# EAGLE library part OLED_DSP (library MyDuino)
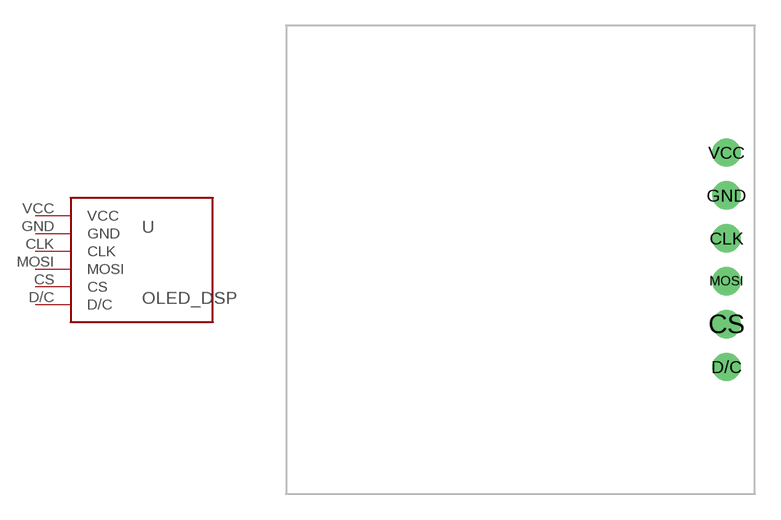
[diagram p2: symbol with the pads of OLED_DSP; footprint OLED_DSP]

Designator prefix -

## OLED_DSP  [OLED_DSP]
CLK  CLK
CS  CS
D/C  D/C
GND  GND
MOSI  MOSI
VCC  VCC

## Footprint OLED_DSP (pad centres in mm)
drill 1.1: CLK 0,7.5; CS 0,2.5; D/C 0,0; GND 0,10; MOSI 0,5; VCC 0,12.5